# Altium integrated library USB-A1VSB6.IntLib: 1 symbol
Pins are listed as number, name and electrical type; pins without a type are passive.

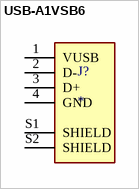
[diagram p0: symbol USB-A1VSB6]

## USB-A1VSB6
designator J?
USB-A (USB TYPE-A) - Receptacle Connector 4 Position Through Hole; MP: USB-A1VSB6; MF: On Shore; Check_prices: https://www.snapeda.com/parts/USB-A1VSB6/On+Shore+Technology+Inc./view-part/?ref=eda; Value: *; Availability: In Stock; Price: None; Package: None; SnapEDA_Link: https://www.snapeda.com/parts/USB-A1VSB6/On+Shore+Technology+Inc./view-part/?ref=snap; Purchase-URL: https://pricing.snapeda.com/search/part/USB-A1VSB6/?ref=eda
footprint ONSHORE_USB-A1VSB6
pins: 1 VUSB, 2 D-, 3 D+, 4 GND, S1 SHIELD, S2 SHIELD